# EAGLE library part HARWIN_06 (library CNTRL_BOARD)
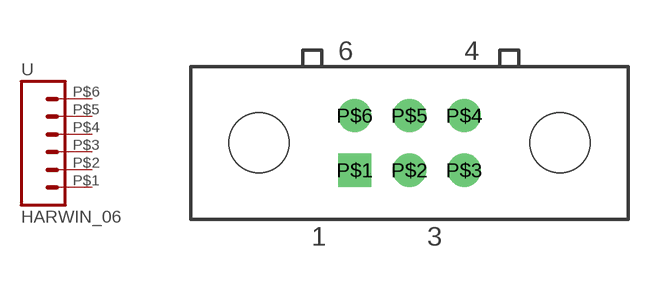
[diagram p6: symbol with the pads of HARWIN_DATAMATE_6; footprint HARWIN_DATAMATE_6]

Designator prefix -

## HARWIN_06  [HARWIN_DATAMATE_6]
P$1  1  pas
P$2  2  pas
P$3  3  pas
P$4  4  pas
P$5  5  pas
P$6  6  pas

## Footprint HARWIN_DATAMATE_6 (pad centres in mm)
drill 0.7 square: P$1 -2,-1
drill 0.7: P$2 0,-1; P$3 2,-1; P$4 2,1; P$5 0,1; P$6 -2,1
hole 2.2 at -5.5,0
hole 2.2 at 5.5,0